# EAGLE library part ZF5S-50-01-T-WT (library keves)
dual row 50 pin connector
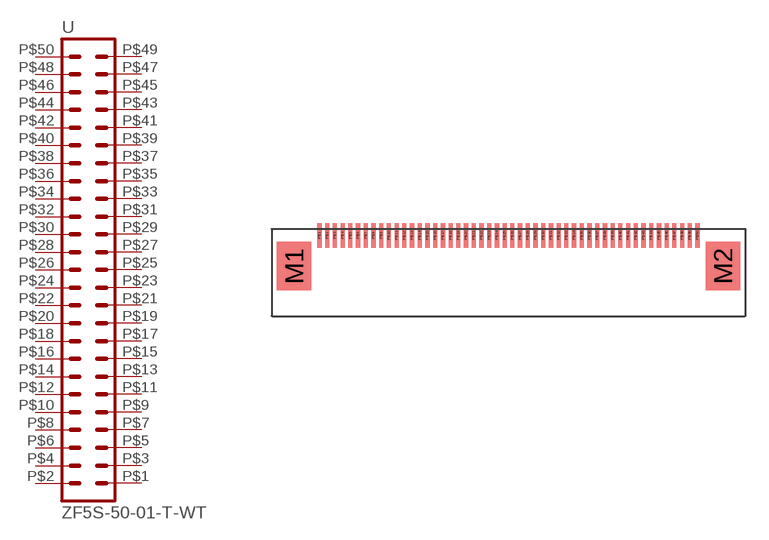
[diagram p14: symbol with the pads of ZF5S-50-01-T-WT; footprint ZF5S-50-01-T-WT]

Designator prefix -

## ZF5S-50-01-T-WT  [ZF5S-50-01-T-WT]
P$1  1  pas
P$2  2  pas
P$3  3  pas
P$4  4  pas
P$5  5  pas
P$6  6  pas
P$7  7  pas
P$8  8  pas
P$9  9  pas
P$10  10  pas
P$11  11  pas
P$12  12  pas
P$13  13  pas
P$14  14  pas
P$15  15  pas
P$16  16  pas
P$17  17  pas
P$18  18  pas
P$19  19  pas
P$20  20  pas
P$21  21  pas
P$22  22  pas
P$23  23  pas
P$24  24  pas
P$25  25  pas
P$26  26  pas
P$27  27  pas
P$28  28  pas
P$29  29  pas
P$30  30  pas
P$31  31  pas
P$32  32  pas
P$33  33  pas
P$34  34  pas
P$35  35  pas
P$36  36  pas
P$37  37  pas
P$38  38  pas
P$39  39  pas
P$40  40  pas
P$41  41  pas
P$42  42  pas
P$43  43  pas
P$44  44  pas
P$45  45  pas
P$46  46  pas
P$47  47  pas
P$48  48  pas
P$49  49  pas
P$50  50  pas

## Footprint ZF5S-50-01-T-WT (pad centres in mm)
Samtec ZF5S-50-01-T-WT FFC connector (50 pins 0.5mm)
smd 2.24 x 3.12: M1 -13.897,-1.98; M2 13.897,-1.98
smd 0.27 x 1.6: P$1 -12.25,0; P$2 -11.75,0; P$3 -11.25,0; P$4 -10.75,0; P$5 -10.25,0; P$6 -9.75,0; P$7 -9.25,0; P$8 -8.75,0; P$9 -8.25,0; P$10 -7.75,0; P$11 -7.25,0; P$12 -6.75,0; P$13 -6.25,0; P$14 -5.75,0; P$15 -5.25,0; P$16 -4.75,0; P$17 -4.25,0; P$18 -3.75,0; P$19 -3.25,0; P$20 -2.75,0; P$21 -2.25,0; P$22 -1.75,0; P$23 -1.25,0; P$24 -0.75,0; P$25 -0.25,0; P$26 0.25,0; P$27 0.75,0; P$28 1.25,0; P$29 1.75,0; P$30 2.25,0; P$31 2.75,0; P$32 3.25,0; P$33 3.75,0; P$34 4.25,0; P$35 4.75,0; P$36 5.25,0; P$37 5.75,0; P$38 6.25,0; P$39 6.75,0; P$40 7.25,0; P$41 7.75,0; P$42 8.25,0; P$43 8.75,0; P$44 9.25,0; P$45 9.75,0; P$46 10.25,0; P$47 10.75,0; P$48 11.25,0; P$49 11.75,0; P$50 12.25,0